# Altium schematic symbol library Milandr.SchLib: 5 symbols
Pins are listed as number, name and electrical type; pins without a type are passive.

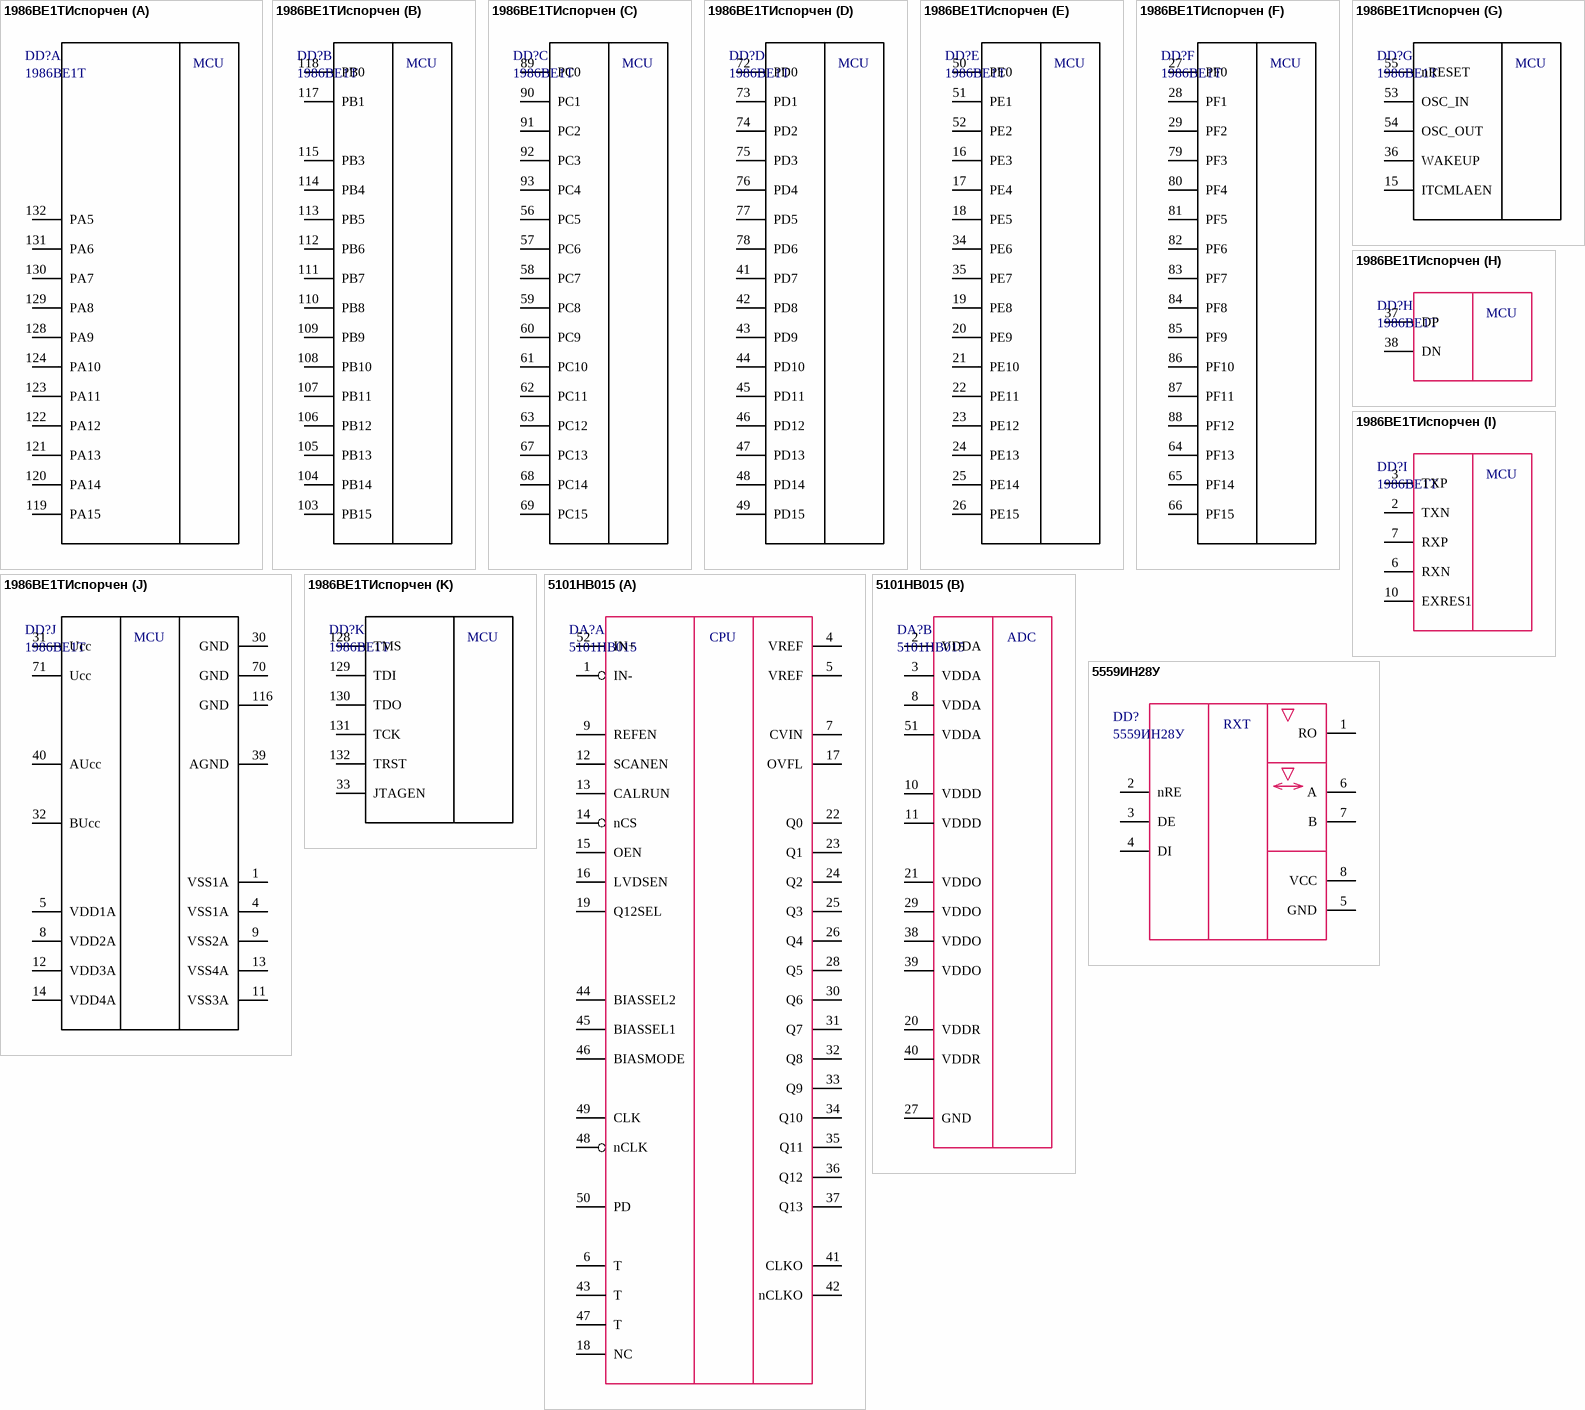
[diagram p0: symbols 1986ВЕ1ТИспорчен to 5559ИН28У]

## 1986ВЕ1ТИспорчен
designator DD?, comment 1986ВЕ1Т
footprint 4229.132-3
part A pins: 119 PA15, 120 PA14, 121 PA13, 122 PA12, 123 PA11, 124 PA10, 128 PA9, 129 PA8, 130 PA7, 131 PA6, 132 PA5
part B pins: 103 PB15, 104 PB14, 105 PB13, 106 PB12, 107 PB11, 108 PB10, 109 PB9, 110 PB8, 111 PB7, 112 PB6, 113 PB5, 114 PB4, 115 PB3, 117 PB1, 118 PB0
part C pins: 56 PC5, 57 PC6, 58 PC7, 59 PC8, 60 PC9, 61 PC10, 62 PC11, 63 PC12, 67 PC13, 68 PC14, 69 PC15, 89 PC0, 90 PC1, 91 PC2, 92 PC3, 93 PC4
part D pins: 41 PD7, 42 PD8, 43 PD9, 44 PD10, 45 PD11, 46 PD12, 47 PD13, 48 PD14, 49 PD15, 72 PD0, 73 PD1, 74 PD2, 75 PD3, 76 PD4, 77 PD5, 78 PD6
part E pins: 16 PE3, 17 PE4, 18 PE5, 19 PE8, 20 PE9, 21 PE10, 22 PE11, 23 PE12, 24 PE13, 25 PE14, 26 PE15, 34 PE6, 35 PE7, 50 PE0, 51 PE1, 52 PE2
part F pins: 27 PF0, 28 PF1, 29 PF2, 64 PF13, 65 PF14, 66 PF15, 79 PF3, 80 PF4, 81 PF5, 82 PF6, 83 PF7, 84 PF8, 85 PF9, 86 PF10, 87 PF11, 88 PF12
part G pins: 15 ITCMLAEN, 36 WAKEUP, 53 OSC_IN, 54 OSC_OUT, 55 nRESET
part H pins: 37 DP, 38 DN
part I pins: 2 TXN, 3 TXP, 6 RXN, 7 RXP, 10 EXRES1
part J pins: 1 VSS1A, 4 VSS1A, 5 VDD1A, 8 VDD2A, 9 VSS2A, 11 VSS3A, 12 VDD3A, 13 VSS4A, 14 VDD4A, 30 GND, 31 Ucc, 32 BUcc, 39 AGND, 40 AUcc, 70 GND, 71 Ucc, 116 GND
part K pins: 33 JTAGEN, 128 TMS, 129 TDI, 130 TDO, 131 TCK, 132 TRST
part A text: MCU
part B text: MCU
part C text: MCU
part D text: MCU
part E text: MCU
part F text: MCU
part G text: MCU
part H text: MCU
part I text: MCU
part J text: MCU
part K text: MCU

## 5101НВ015
designator DA?
footprint 5152.52-1
part A pins: 1 IN-, 4 VREF, 5 VREF, 6 T, 7 CVIN, 9 REFEN, 12 SCANEN, 13 CALRUN, 14 nCS, 15 OEN, 16 LVDSEN, 17 OVFL, 18 NC, 19 Q12SEL, 22 Q0, 23 Q1, 24 Q2, 25 Q3, 26 Q4, 28 Q5, 30 Q6, 31 Q7, 32 Q8, 33 Q9, 34 Q10, 35 Q11, 36 Q12, 37 Q13, 41 CLKO, 42 nCLKO, 43 T, 44 BIASSEL2, 45 BIASSEL1, 46 BIASMODE, 47 T, 48 nCLK, 49 CLK, 50 PD, 52 IN+
part B pins: 2 VDDA, 3 VDDA, 8 VDDA, 10 VDDD, 11 VDDD, 20 VDDR, 21 VDDO, 27 GND, 29 VDDO, 38 VDDO, 39 VDDO, 40 VDDR, 51 VDDA
part A text: CPU
part B text: ADC

## 5559ИН28У
designator DD?
pins: 1 RO, 2 nRE, 3 DE, 4 DI, 5 GND, 6 A, 7 B, 8 VCC
text: RXT

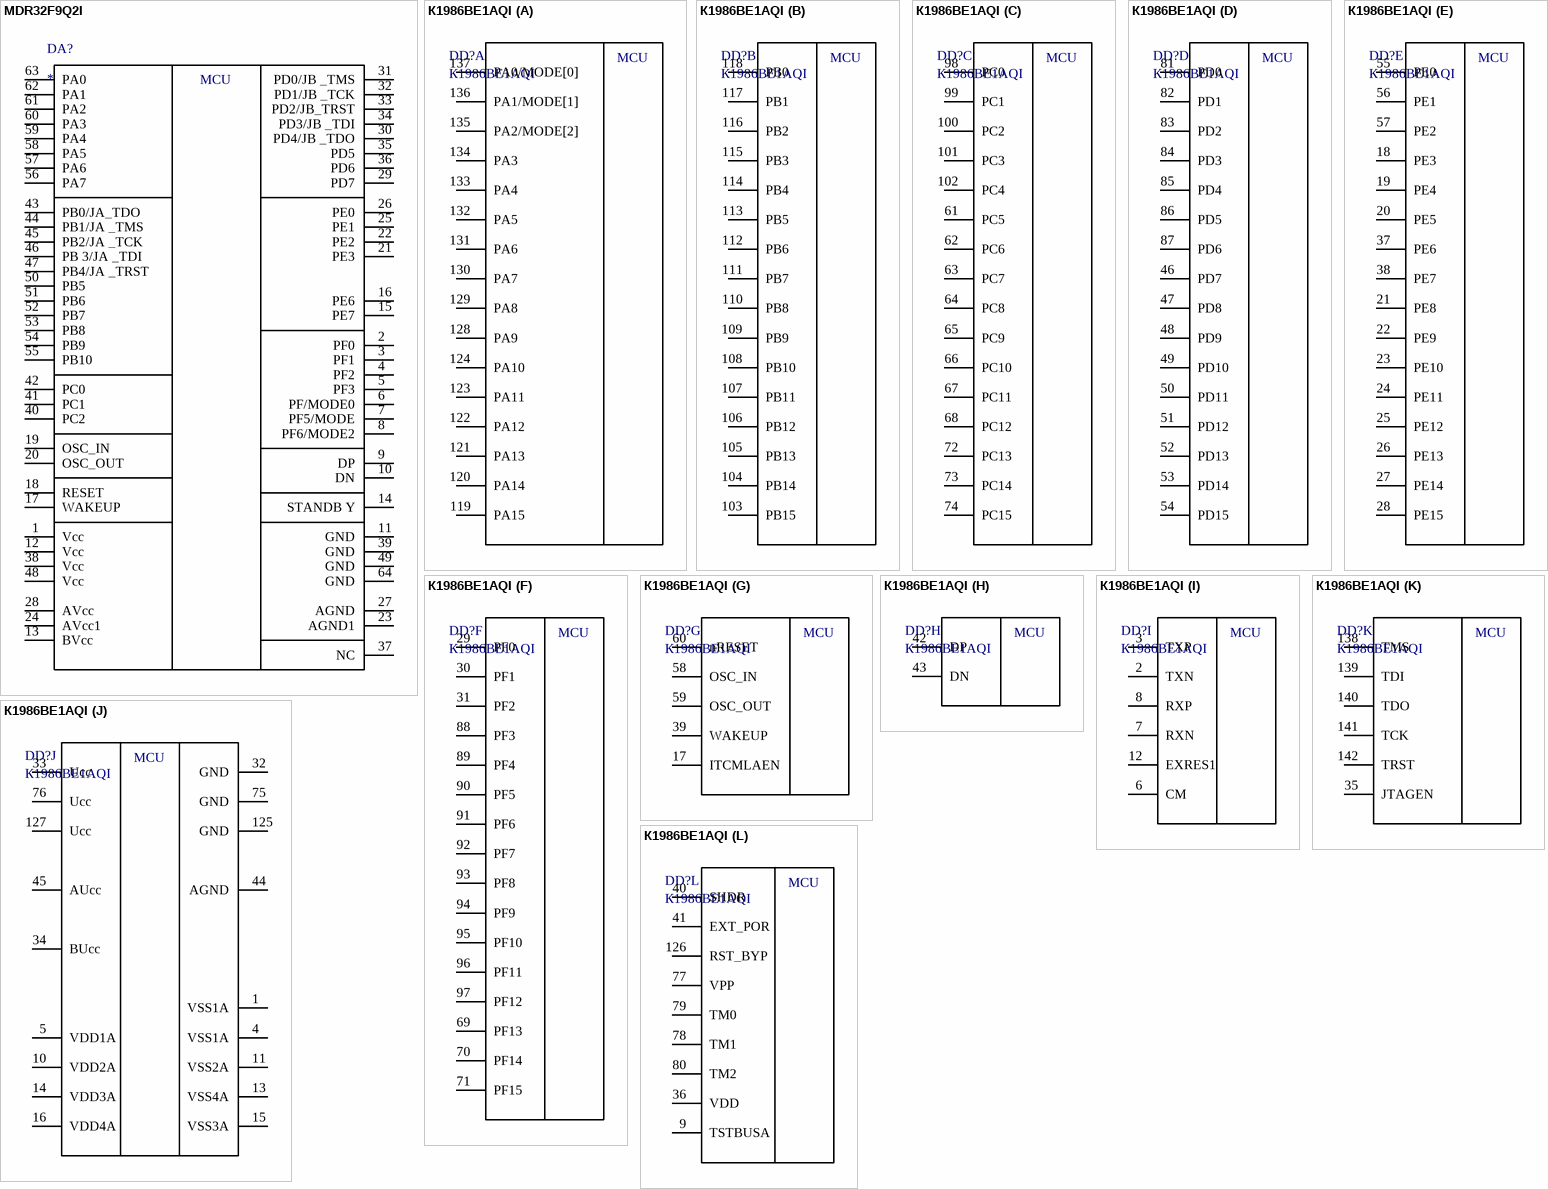
[diagram p1: symbols MDR32F9Q2I to К1986ВЕ1АQI]

## MDR32F9Q2I
designator DA?
footprint LQFP64
pins: 1 Vcc, 2 PF0, 3 PF1, 4 PF2, 5 PF3, 6 PF/MODE0, 7 PF5/MODE, 8 PF6/MODE2, 9 DP, 10 DN, 11 GND, 12 Vcc, 13 BVcc, 14 STANDB Y, 15 PE7, 16 PE6, 17 WAKEUP, 18 RESET, 19 OSC_IN, 20 OSC_OUT, 21 PE3, 22 PE2, 23 AGND1, 24 AVcc1, 25 PE1, 26 PE0, 27 AGND, 28 AVcc, 29 PD7, 30 PD4/JB _TDO, 31 PD0/JB _TMS, 32 PD1/JB _TCK, 33 PD2/JB_TRST, 34 PD3/JB _TDI, 35 PD5, 36 PD6, 37 NC, 38 Vcc, 39 GND, 40 PC2, 41 PC1, 42 PC0, 43 PB0/JA_TDO, 44 PB1/JA _TMS, 45 PB2/JA _TCK, 46 PB 3/JA _TDI, 47 PB4/JA _TRST, 48 Vcc, 49 GND, 50 PB5, 51 PB6, 52 PB7, 53 PB8, 54 PB9, 55 PB10, 56 PA7, 57 PA6, 58 PA5, 59 PA4, 60 PA3, 61 PA2, 62 PA1, 63 PA0, 64 GND
text: MCU

## К1986ВЕ1АQI
designator DD?
footprint QFP65P2320X2320X245-144N (QFP, 144-Leads, Body 20,00x20,00mm, Pitch 0,65mm, IPC Medium Density)
part A pins: 119 PA15, 120 PA14, 121 PA13, 122 PA12, 123 PA11, 124 PA10, 128 PA9, 129 PA8, 130 PA7, 131 PA6, 132 PA5, 133 PA4, 134 PA3, 135 PA2/MODE[2], 136 PA1/MODE[1], 137 PA0/MODE[0]
part B pins: 103 PB15, 104 PB14, 105 PB13, 106 PB12, 107 PB11, 108 PB10, 109 PB9, 110 PB8, 111 PB7, 112 PB6, 113 PB5, 114 PB4, 115 PB3, 116 PB2, 117 PB1, 118 PB0
part C pins: 61 PC5, 62 PC6, 63 PC7, 64 PC8, 65 PC9, 66 PC10, 67 PC11, 68 PC12, 72 PC13, 73 PC14, 74 PC15, 98 PC0, 99 PC1, 100 PC2, 101 PC3, 102 PC4
part D pins: 46 PD7, 47 PD8, 48 PD9, 49 PD10, 50 PD11, 51 PD12, 52 PD13, 53 PD14, 54 PD15, 81 PD0, 82 PD1, 83 PD2, 84 PD3, 85 PD4, 86 PD5, 87 PD6
part E pins: 18 PE3, 19 PE4, 20 PE5, 21 PE8, 22 PE9, 23 PE10, 24 PE11, 25 PE12, 26 PE13, 27 PE14, 28 PE15, 37 PE6, 38 PE7, 55 PE0, 56 PE1, 57 PE2
part F pins: 29 PF0, 30 PF1, 31 PF2, 69 PF13, 70 PF14, 71 PF15, 88 PF3, 89 PF4, 90 PF5, 91 PF6, 92 PF7, 93 PF8, 94 PF9, 95 PF10, 96 PF11, 97 PF12
part G pins: 17 ITCMLAEN, 39 WAKEUP, 58 OSC_IN, 59 OSC_OUT, 60 nRESET
part H pins: 42 DP, 43 DN
part I pins: 2 TXN, 3 TXP, 6 CM, 7 RXN, 8 RXP, 12 EXRES1
part J pins: 1 VSS1A, 4 VSS1A, 5 VDD1A, 10 VDD2A, 11 VSS2A, 13 VSS4A, 14 VDD3A, 15 VSS3A, 16 VDD4A, 32 GND, 33 Ucc, 34 BUcc, 44 AGND, 45 AUcc, 75 GND, 76 Ucc, 125 GND, 127 Ucc
part K pins: 35 JTAGEN, 138 TMS, 139 TDI, 140 TDO, 141 TCK, 142 TRST
part L pins: 9 TSTBUSA, 36 VDD, 40 SHDR, 41 EXT_POR, 77 VPP, 78 TM1, 79 TM0, 80 TM2, 126 RST_BYP
part A text: MCU
part B text: MCU
part C text: MCU
part D text: MCU
part E text: MCU
part F text: MCU
part G text: MCU
part H text: MCU
part I text: MCU
part J text: MCU
part K text: MCU
part L text: MCU